# Altium integrated library MLG0603P2N0BT000.IntLib: 1 symbol
Pins are listed as number, name and electrical type; pins without a type are passive.

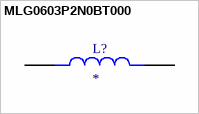
[diagram p0: symbol MLG0603P2N0BT000]

## MLG0603P2N0BT000
designator L?
2 nH Unshielded Multilayer Inductor 600 mA 100mOhm Max 0201 (0603 Metric); MF: TDK; MP: MLG0603P2N0BT000; Price: None; Check_prices: https://www.snapeda.com/parts/MLG0603P2N0BT000/TDK/view-part/?ref=eda; Package: 0603 Taiyo Yuden; Purchase-URL: https://pricing.snapeda.com/search/part/MLG0603P2N0BT000/?ref=eda; SnapEDA_Link: https://www.snapeda.com/parts/MLG0603P2N0BT000/TDK/view-part/?ref=snap; Value: *; Availability: In Stock
footprint INDC0603X33N
pins: 1, 2